# EAGLE library part MKR12FUNO99_ARDUINO_R3_NOICSP_47MM (library R3Mkr12F_MB)
Arduino R3 NoICSP 49mm
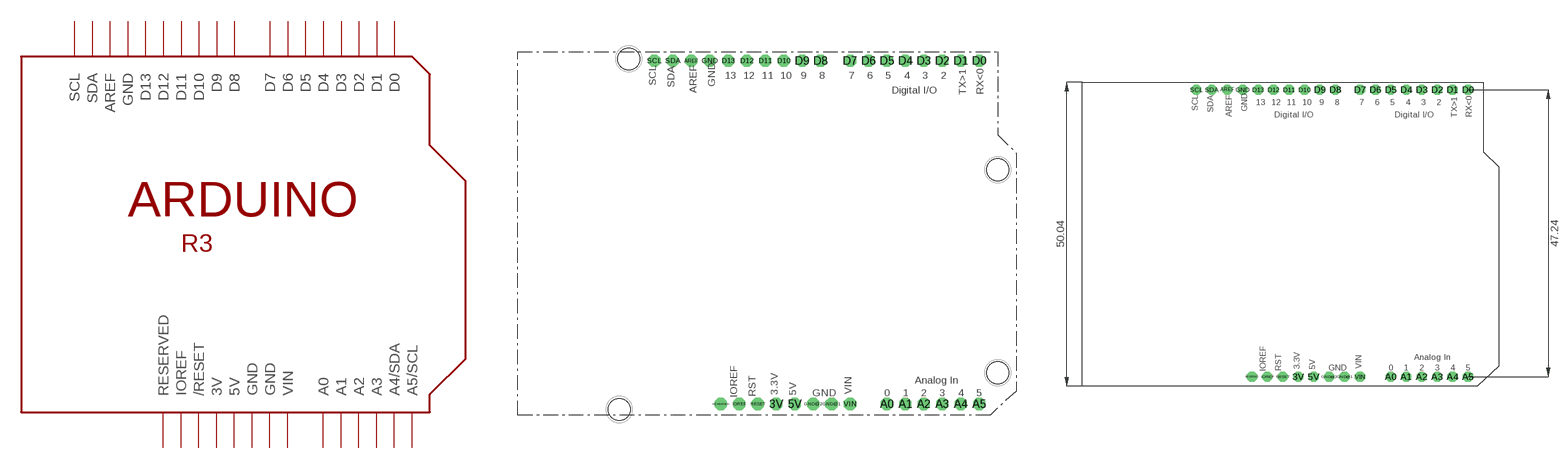
[diagram p1: symbol with the pads of MKR12FUNO99_ARDUINOR3_NOICSP_47MM; footprints MKR12FUNO99_ARDUINOR3_NOICSP_47MM, MKR12FUNO99_ARDUINOR3_NOICSP_47MM_NOHOLE]

Designator prefix UNO

## MKR12FUNO99_ARDUINO_R3_NOICSP_47MM  [MKR12FUNO99_ARDUINOR3_NOICSP_47MM]
3V  3V  pwr
5V  5V  pwr
A0  A0
A1  A1
A2  A2
A3  A3
A4  A4/SDA
A5  A5/SCL
AREF  AREF
D0  D0
D1  D1
D2  D2
D3  D3
D4  D4
D5  D5
D6  D6
D7  D7
D8  D8
D9  D9
D10  D10
D11  D11
D12  D12
D13  D13
GND  GND  pwr
GND@1  GND  pwr
GND@2  GND  pwr
IOREF  IOREF  out
RESERVED  RESERVED  nc
RESET  /RESET
SCL  SCL
SDA  SDA
VIN  VIN  pwr

## MKR12FUNO99_ARDUINO_R3_NOICSP_47MMNOHOLE  [MKR12FUNO99_ARDUINOR3_NOICSP_47MM_NOHOLE]
Pads as for MKR12FUNO99_ARDUINOR3_NOICSP_47MM

## Footprint MKR12FUNO99_ARDUINOR3_NOICSP_47MM (pad centres in mm)
drill 1 pad 1.676 octagon: 3V 35.56,3.302; 5V 38.1,3.302; A0 50.8,3.302; A1 53.34,3.302; A2 55.88,3.302; A3 58.42,3.302; A4 60.96,3.302; A5 63.5,3.302; AREF 23.876,50.546; D0 63.5,50.546; D1 60.96,50.546; D2 58.42,50.546; D3 55.88,50.546; D4 53.34,50.546; D5 50.8,50.546; D6 48.26,50.546; D7 45.72,50.546; D8 41.656,50.546; D9 39.116,50.546; D10 36.576,50.546; D11 34.036,50.546; D12 31.496,50.546; D13 28.956,50.546; GND 26.416,50.546; GND@1 43.18,3.302; GND@2 40.64,3.302; IOREF 30.48,3.302; RESERVED 27.94,3.302; RESET 33.02,3.302; SCL 18.796,50.546; SDA 21.336,50.546; VIN 45.72,3.302
hole 3 at 15.24,50.8
hole 3 at 13.97,2.54
hole 3 at 66.04,7.62
hole 3 at 66.04,35.56

## Footprint MKR12FUNO99_ARDUINOR3_NOICSP_47MM_NOHOLE (pad centres in mm)
drill 1 pad 1.676 octagon: 3V 35.89,1.854; 5V 38.43,1.854; A0 51.13,1.854; A1 53.67,1.854; A2 56.21,1.854; A3 58.75,1.854; A4 61.29,1.854; A5 63.83,1.854; AREF 24.206,49.098; D0 63.83,49.098; D1 61.29,49.098; D2 58.75,49.098; D3 56.21,49.098; D4 53.67,49.098; D5 51.13,49.098; D6 48.59,49.098; D7 46.05,49.098; D8 41.986,49.098; D9 39.446,49.098; D10 36.906,49.098; D11 34.366,49.098; D12 31.826,49.098; D13 29.286,49.098; GND 26.746,49.098; GND@1 43.51,1.854; GND@2 40.97,1.854; IOREF 30.81,1.854; RESERVED 28.27,1.854; RESET 33.35,1.854; SCL 19.126,49.098; SDA 21.666,49.098; VIN 46.05,1.854